# EAGLE library part AVR_2.0MM_ISP (library DECADE-libraries20151104)
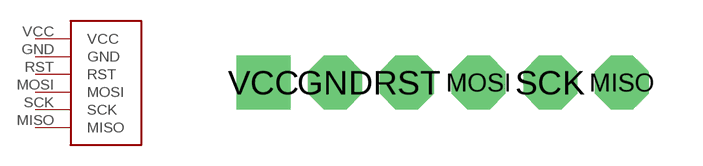
[diagram p125: symbol with the pads of AVR_2.0ISP; footprint AVR_2.0ISP]

Designator prefix -

## AVR_2.0MM_ISP  [AVR_2.0ISP]
GND  GND
MISO  MISO
MOSI  MOSI
RST  RST
SCK  SCK
VCC  VCC

## Footprint AVR_2.0ISP (pad centres in mm)
drill 1 octagon: GND 2,0; MISO 10,0; MOSI 6,0; RST 4,0; SCK 8,0
drill 1 square: VCC 0,0